# Altium footprint library Soardra.PcbLib: 139 footprints (part 8 of 9)
Each footprint in its own frame and in the unit in brackets; x right, y up, seen from the top. Pads: shape width x height; smd on the part's side, far side on the other; paste and mask are expansions set on the pad; w line width, h text height; cw(c..) or ccw(c..) is an arc to the next point about the centre after c.
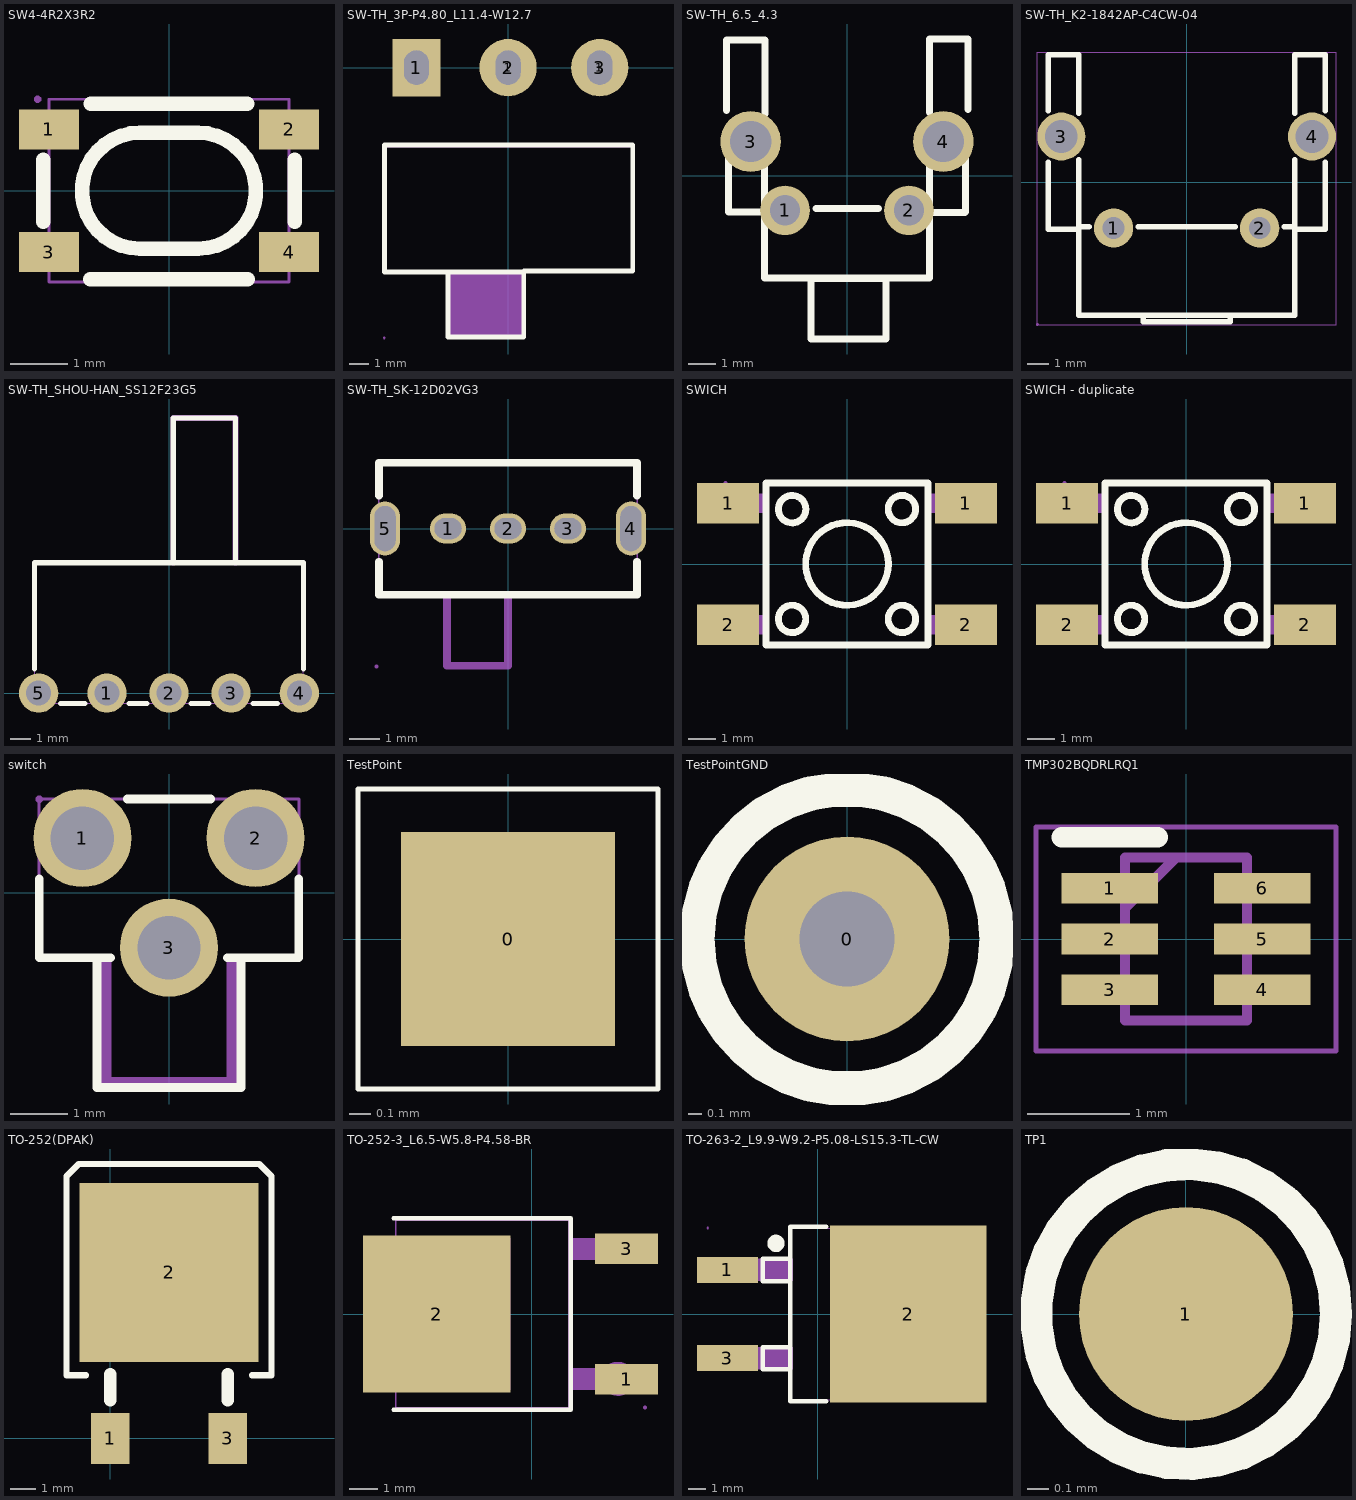
[diagram p7: the footprints below, top view; thin cyan lines are the x and y axes]

## SW4-4R2X3R2 [mm]
pads (4):
  rect 1.05x0.7 smd paste+0 mask+0.051: 1(-2.1,1.075) 2(2.1,1.075) 3(-2.1,-1.075) 4(2.1,-1.075)
Top Overlay:
  lines w0.254: -2.2,-0.544 -2.2,0.544 ; -1.381,-1.55 1.381,-1.55 ; -1.366,1.524 1.366,1.524 ; 2.2,-0.544 2.2,0.544 ; -0.508,-1.016 cw(c-0.508,0) -0.508,1.016 0.508,1.016 cw(c0.508,0) 0.508,-1.016 -0.508,-1.016
Mechanical 15:
  region: -2.35,1.35 -1.65,1.35 -1.65,0.8 -2.35,0.8
  region: 1.651,1.35 2.351,1.35 2.351,0.8 1.651,0.8
  region: -2.35,-0.8 -1.65,-0.8 -1.65,-1.35 -2.35,-1.35
  region: 1.651,-0.8 2.351,-0.8 2.351,-1.35 1.651,-1.35
  region: -2.24,1.6 -2.24,1.625 -2.275,1.66 -2.325,1.66 -2.36,1.625 -2.36,1.6 -2.36,1.575 -2.325,1.54 -2.275,1.54 -2.24,1.575 -2.24,1.6
  lines w0.051: -2.1,-1.6 -2.1,1.6 2.1,1.6 2.1,-1.6 -2.1,-1.6

## SW-TH_3P-P4.80_L11.4-W12.7 [mm]
pads (5):
  rect 2.5x3 hole 1.8 slot 1.3 at 0 deg paste+0 mask+0.051: 1(-4.8,0)
  rect 0.8x1.3 on Top Overlay: 1(0,0) 1(4.8,0)
  round 3 hole 1.8 slot 1.3 at 0 deg paste+0 mask+0.051: 2(0,0) 3(4.8,0)
Top Overlay:
  lines w0.254: -6.48,-4.12 -6.48,-10.7 -3.15,-10.7 ; -6.48,-4.05 5.67,-4.05 6.53,-4.05 6.53,-10.65 0.82,-10.65 0.82,-14.1 -3.15,-14.1 -3.15,-10.7 ; 0.82,-10.7 -3.15,-10.7
Mechanical 6:
  region: 0.78,-10.72 0.78,-14.06 0.82,-14.1 -3.15,-14.1 -3.15,-10.7
Mechanical 15:
  region: -6.42,-14.15 -6.42,-14.125 -6.455,-14.09 -6.505,-14.09 -6.54,-14.125 -6.54,-14.15 -6.54,-14.175 -6.505,-14.21 -6.455,-14.21 -6.42,-14.175 -6.42,-14.15
  lines w0.051: -6.48,-10.64 -6.48,-4.15 6.48,-4.15 6.48,-10.65 0.77,-10.65 0.77,-14.15 -3.06,-14.15 -3.06,-10.65 -6.47,-10.65 -6.48,-10.64

## SW-TH_6.5_4.3 [mm]
pads (4):
  round 1.8 hole 1.1: 1(-2.25,-1.25) 2(2.25,-1.25)
  round 2.2 hole 1.5: 3(-3.5,1.25) 4(3.5,1.25)
Top Overlay:
  lines w0.254: -4.38,2.378 -4.38,4.932 -2.983,4.932 -2.983,2.256 ; -4.3,1.762 -4.3,-1.309 -2.99,-1.309 ; -3,-1.309 -3,-3.71 3,-3.71 3,-1.309 ; -3,-1.182 -3,1.884 ; -1.121,-1.182 1.14,-1.182 ; 2.89,-1.32 4.287,-1.32 ; 2.993,2.296 2.993,4.972 4.39,4.972 4.39,2.418 ; 3,-1.182 3,1.884 ; 4.3,-1.309 4.3,1.762 ; -1.3,-5.92 1.41,-5.92 1.41,-3.72 -1.3,-3.72 -1.3,-5.92
Mechanical 15:
  region: -1.85,-1.25 -1.85,-1.17 -1.911,-1.023 -2.024,-0.911 -2.171,-0.85 -2.33,-0.85 -2.477,-0.911 -2.589,-1.023 -2.65,-1.17 -2.65,-1.25 -2.65,-1.33 -2.589,-1.477 -2.477,-1.589 -2.33,-1.65 -2.171,-1.65 -2.024,-1.589 -1.911,-1.477 -1.85,-1.33 -1.85,-1.25

## SW-TH_K2-1842AP-C4CW-04 [mm]
pads (4):
  round 1.8 hole 1: 1(-3.35,-2.1) 2(3.35,-2.1)
  round 2.2 hole 1.5: 3(-5.75,2.1) 4(5.75,2.1)
Top Overlay:
  lines w0.254: -6.35,0.912 -6.35,-2.159 -4.953,-2.159 -4.953,-6.096 4.953,-6.096 4.953,-2.159 6.35,-2.159 6.35,0.912 ; -6.35,3.288 -6.35,5.842 -4.953,5.842 -4.953,3.166 ; -4.953,1.035 -4.953,-2.032 -4.479,-2.032 ; -2.221,-2.032 2.221,-2.032 ; 4.479,-2.032 4.953,-2.032 4.953,1.035 ; 4.953,3.166 4.953,5.842 6.35,5.842 6.35,3.288 ; -2,-6.396 2,-6.396 2,-6.096 -2,-6.096 -2,-6.396
Mechanical 15:
  region: -6.79,-6.523 -6.79,-6.498 -6.825,-6.463 -6.875,-6.463 -6.91,-6.498 -6.91,-6.523 -6.91,-6.548 -6.875,-6.583 -6.825,-6.583 -6.79,-6.548 -6.79,-6.523
  region: 6.4,2.1 6.4,2.186 6.356,2.351 6.27,2.499 6.149,2.62 6.001,2.706 5.836,2.75 5.664,2.75 5.499,2.706 5.351,2.62 5.23,2.499 5.144,2.351 5.1,2.186 5.1,2.1 5.1,2.014 5.144,1.849 5.23,1.701 5.351,1.58 5.499,1.494 5.664,1.45 5.836,1.45 6.001,1.494 6.149,1.58 6.27,1.701 6.356,1.849 6.4,2.014 6.4,2.1
  region: -5.1,2.1 -5.1,2.186 -5.144,2.351 -5.23,2.499 -5.351,2.62 -5.499,2.706 -5.664,2.75 -5.836,2.75 -6.001,2.706 -6.149,2.62 -6.27,2.499 -6.356,2.351 -6.4,2.186 -6.4,2.1 -6.4,2.014 -6.356,1.849 -6.27,1.701 -6.149,1.58 -6.001,1.494 -5.836,1.45 -5.664,1.45 -5.499,1.494 -5.351,1.58 -5.23,1.701 -5.144,1.849 -5.1,2.014 -5.1,2.1
  region: 3.75,-2.1 3.75,-2.02 3.689,-1.873 3.577,-1.761 3.43,-1.7 3.271,-1.7 3.124,-1.761 3.011,-1.873 2.95,-2.02 2.95,-2.1 2.95,-2.179 3.011,-2.326 3.124,-2.439 3.271,-2.5 3.43,-2.5 3.577,-2.439 3.689,-2.326 3.75,-2.179 3.75,-2.1
  region: -2.95,-2.1 -2.95,-2.02 -3.011,-1.873 -3.123,-1.761 -3.27,-1.7 -3.429,-1.7 -3.576,-1.761 -3.689,-1.873 -3.75,-2.02 -3.75,-2.1 -3.75,-2.179 -3.689,-2.326 -3.576,-2.439 -3.429,-2.5 -3.27,-2.5 -3.123,-2.439 -3.011,-2.326 -2.95,-2.179 -2.95,-2.1
  lines w0.051: -6.85,-6.523 6.85,-6.523 6.85,5.969 -6.85,5.969 -6.85,-6.523

## SW-TH_SHOU-HAN_SS12F23G5 [mm]
pads (5):
  round 1.9 hole 1.2 mask+0.05: 1(-3,0) 2(0,0) 3(3,0) 4(6.3,0) 5(-6.3,0)
Top Overlay:
  lines w0.254: -6.5,1.164 -6.5,6.3 6.5,6.3 6.5,1.164 ; -5.23,-0.5 -4.07,-0.5 ; -1.93,-0.5 -1.07,-0.5 ; 0.21,6.3 0.21,13.3 3.21,13.3 3.21,6.3 ; 1.07,-0.5 1.93,-0.5 ; 4.07,-0.5 5.23,-0.5
Mechanical 6:
  region: 3.083,6.3 3.083,13.3 3.083,13.353 3.157,13.427 3.263,13.427 3.337,13.353 3.337,13.3 3.337,6.3 3.337,6.247 3.263,6.173 3.157,6.173 3.083,6.247 3.083,6.3
  region: 3.21,13.173 0.337,13.173 0.337,6.3 0.337,6.247 0.263,6.173 0.157,6.173 0.083,6.247 0.083,6.3 0.083,13.3 0.083,13.325 0.102,13.372 0.138,13.408 0.185,13.427 0.21,13.427 3.21,13.427 3.263,13.427 3.337,13.353 3.337,13.247 3.263,13.173 3.21,13.173
Mechanical 15:
  region: -6.44,-0.5 -6.44,-0.475 -6.475,-0.44 -6.525,-0.44 -6.56,-0.475 -6.56,-0.5 -6.56,-0.525 -6.525,-0.56 -6.475,-0.56 -6.44,-0.525 -6.44,-0.5
  region: 2.6,0.15 3.4,0.15 3.4,-0.15 2.6,-0.15
  region: -0.4,0.15 0.4,0.15 0.4,-0.15 -0.4,-0.15
  region: -3.4,0.15 -2.6,0.15 -2.6,-0.15 -3.4,-0.15
  region: 6.1,0.5 6.5,0.5 6.5,-0.5 6.1,-0.5
  region: -6.5,0.5 -6.1,0.5 -6.1,-0.5 -6.5,-0.5
  lines w0.051: -6.5,-0.492 -6.5,6.308 0.2,6.31 0.2,13.3 3.2,13.31 3.2,6.31 6.5,6.308 6.5,-0.492 -6.5,-0.492

## SW-TH_SK-12D02VG3 [mm]
pads (5):
  oval 1.2x1 hole 0.7 slot 0.9 at 0 deg mask+0.051: 1(-1.999,0) 2(0,0) 3(1.999,0)
  oval 1x1.8 hole 0.7 slot 1.5 at 90 deg mask+0.051: 4(4.099,0) 5(-4.099,0)
Top Overlay:
  lines w0.254: -4.3,-1.103 -4.3,-2.2 4.3,-2.2 4.3,-1.103 ; -4.3,1.103 -4.3,2.2 4.3,2.2 4.3,1.103
Mechanical 6:
  lines w0.254: -2.032,-2.286 -2.032,-4.572 0,-4.572 0,-2.286
Mechanical 15:
  region: -4.38,-0.4 -4.38,0.4 -3.82,0.4 -3.82,-0.4
  region: 3.82,-0.4 3.82,0.4 4.38,0.4 4.38,-0.4
  region: 2.1,-0.28 1.9,-0.28 1.9,0.28 2.1,0.28
  region: 0.1,-0.28 -0.1,-0.28 -0.1,0.28 0.1,0.28
  region: -1.9,-0.28 -2.1,-0.28 -2.1,0.28 -1.9,0.28
  region: -4.32,-4.6 -4.32,-4.575 -4.355,-4.54 -4.405,-4.54 -4.44,-4.575 -4.44,-4.6 -4.44,-4.625 -4.405,-4.66 -4.355,-4.66 -4.32,-4.625 -4.32,-4.6
  lines w0.051: -4.3,-2.2 -4.3,2.3 4.3,2.3 4.3,-2.2 0,-2.22 0,-4.6 -2,-4.6 -2,-2.2 -4.3,-2.2

## SWICH [mm] "SMD 6*6*5"
height 15
pads (4):
  rect 2.3x1.5 smd mask+0.051: 1(-4.4,2.25) 1(4.4,2.25) 2(-4.4,-2.25) 2(4.4,-2.25)
Top Overlay:
  circle w0.254: c-2.03,2.03 r0.508
  circle w0.254: c2.032,2.032 r0.508
  circle w0.254: c-2.032,-2.032 r0.508
  circle w0.254: c2.032,-2.032 r0.508
  circle w0.254: c0,0 r1.529
  lines w0.254: -3,-3 -3,3 3,3 3,-3 -3,-3
Mechanical 15:
  region: 3.5,1.9 3.5,2.6 4.5,2.6 4.5,1.9
  region: 2.99,1.9 2.99,2.6 3.51,2.6 3.51,1.9
  region: 3.5,-2.6 3.5,-1.9 4.5,-1.9 4.5,-2.6
  region: 2.99,-2.6 2.99,-1.9 3.51,-1.9 3.51,-2.6
  region: -4.5,-2.6 -4.5,-1.9 -3.5,-1.9 -3.5,-2.6
  region: -3.51,-2.6 -3.51,-1.9 -2.99,-1.9 -2.99,-2.6
  region: -4.5,1.9 -4.5,2.6 -3.5,2.6 -3.5,1.9
  region: -3.51,1.9 -3.51,2.6 -2.99,2.6 -2.99,1.9
  region: -4.44,3 -4.44,3.025 -4.475,3.06 -4.525,3.06 -4.56,3.025 -4.56,3 -4.56,2.975 -4.525,2.94 -4.475,2.94 -4.44,2.975 -4.44,3
  lines w0.051: -3,-3 -3,3 3,3 3,-3 -3,-3

## SWICH - duplicate [mm] "SMD 6*6*5"
height 0.5
pads (4):
  rect 2.3x1.5 smd mask+0.051: 1(-4.4,2.25) 1(4.4,2.25) 2(-4.4,-2.25) 2(4.4,-2.25)
Top Overlay:
  circle w0.254: c-2.03,2.03 r0.508
  circle w0.254: c2.032,2.032 r0.508
  circle w0.254: c-2.032,-2.032 r0.508
  circle w0.254: c2.032,-2.032 r0.508
  circle w0.254: c0,0 r1.529
  lines w0.254: -3,-3 -3,3 3,3 3,-3 -3,-3
Mechanical 15:
  region: 3.5,1.9 3.5,2.6 4.5,2.6 4.5,1.9
  region: 2.99,1.9 2.99,2.6 3.51,2.6 3.51,1.9
  region: 3.5,-2.6 3.5,-1.9 4.5,-1.9 4.5,-2.6
  region: 2.99,-2.6 2.99,-1.9 3.51,-1.9 3.51,-2.6
  region: -4.5,-2.6 -4.5,-1.9 -3.5,-1.9 -3.5,-2.6
  region: -3.51,-2.6 -3.51,-1.9 -2.99,-1.9 -2.99,-2.6
  region: -4.5,1.9 -4.5,2.6 -3.5,2.6 -3.5,1.9
  region: -3.51,1.9 -3.51,2.6 -2.99,2.6 -2.99,1.9
  region: -4.44,3 -4.44,3.025 -4.475,3.06 -4.525,3.06 -4.56,3.025 -4.56,3 -4.56,2.975 -4.525,2.94 -4.475,2.94 -4.44,2.975 -4.44,3
  lines w0.051: -3,-3 -3,3 3,3 3,-3 -3,-3

## switch [mm]
height 0.5
pads (3):
  round 1.7 hole 1.1: 1(-1.5,0.95) 2(1.5,0.95) 3(0,-0.95)
Top Overlay:
  lines w0.152: -2.25,0.245 -2.25,-1.125 -1.25,-1.125 ; -1.015,-1.125 -1.25,-1.125 ; -0.723,1.625 0.722,1.625 ; 1.015,-1.125 1.25,-1.125 ; 2.25,0.245 2.25,-1.125 1.25,-1.125 ; -1.25,-1.125 -1.25,-3.376 1.25,-3.376 1.25,-1.125
Mechanical 6:
  region: -1.2,-1.1 -1.2,-3.4 1.2,-3.4 1.2,-1.1 1,-1.1 1,-3.2 -1,-3.2 -1,-1.1
Mechanical 15:
  region: -2.19,1.625 -2.19,1.65 -2.225,1.685 -2.275,1.685 -2.31,1.65 -2.31,1.625 -2.31,1.6 -2.275,1.565 -2.225,1.565 -2.19,1.6 -2.19,1.625
  region: 0.35,-1.125 -0.35,-1.125 -0.35,-0.775 0.35,-0.775
  region: -1.15,0.79 -1.85,0.79 -1.85,1.11 -1.15,1.11
  region: 1.85,0.79 1.15,0.79 1.15,1.11 1.85,1.11
  lines w0.051: -2.25,-1.125 -2.25,1.625 2.25,1.625 2.25,-1.125 1.25,-1.125 1.25,-3.376 -1.25,-3.376 -1.25,-1.125 -2.25,-1.125

## TestPoint [mm]
pads (1):
  rect 1x1 smd: 0(0,0)
Top Overlay:
  lines w0.025: -0.7,-0.7 0.7,-0.7 0.7,0.7 -0.7,0.7 -0.7,-0.7

## TestPointGND [mm]
pads (1):
  round 1.5 hole 0.7: 0(0,0)
Top Overlay:
  circle w0.254: c0,0 r1.1

## TMP302BQDRLRQ1 [mm]
pads (6):
  rect 0.95x0.3 smd: 1(-0.75,0.5) 2(-0.75,0) 3(-0.75,-0.5) 4(0.75,-0.5) 5(0.75,0) 6(0.75,0.5)
Top Overlay:
  lines w0.2: -1.225,1 -0.275,1
Mechanical 15:
  lines w0.1: -0.6,0.3 -0.1,0.8 ; -0.6,-0.8 -0.6,0.8 0.6,0.8 0.6,-0.8 -0.6,-0.8
Mechanical 20:
  lines w0.05: -1.475,-1.1 -1.475,1.1 1.475,1.1 1.475,-1.1 -1.475,-1.1

## TO-252(DPAK) [mm]
height 0.5
pads (3):
  rect 1.5x2 smd: 1(0,0) 3(4.6,0)
  rect 7x7 smd: 2(2.3,6.5)
Top Overlay:
  lines w0.25: -0.953,2.474 -1.714,2.474 -1.714,9.426 -1.714,10.268 -1.233,10.749 5.833,10.749 6.314,10.268 6.314,9.426 6.314,2.474 5.553,2.474
  lines w0.5: 0,1.5 0,2.514 ; 4.6,1.5 4.6,2.514
3D body: height 2.8, standoff 0, extent -1.181,3.023 5.838,9.989
3D body: height 1, standoff 0, extent -0.5,-0.5 0.5,0.5
3D body: height 1.5, standoff 1, extent -0.5,0 0.5,3
3D body: height 1.5, standoff 1, extent 4,0 5,3
3D body: height 1, standoff 0, extent 4,-0.5 5,0.5

## TO-252-3_L6.5-W5.8-P4.58-BR [mm]
pads (3):
  rect 2.218x1.064 smd mask+0.051: 1(3.349,-2.3) 3(3.349,2.3)
  rect 5.204x5.554 smd mask+0.051: 2(-3.349,0)
Top Overlay:
  lines w0.152: -4.873,-3.376 1.38,-3.376 1.38,3.376 -4.873,3.376
Mechanical 6:
  circle w0.6: c3.048,-2.286 r0.3
Mechanical 15:
  region: -0.747,2.67 -0.747,-2.67 -4.962,-2.67 -5.497,-2.136 -5.497,2.136 -4.962,2.67
  region: 2.544,2.68 2.544,1.92 1.293,1.92 1.293,2.68
  region: 4.003,2.68 4.003,1.92 2.533,1.92 2.533,2.68
  region: 2.544,-1.92 2.544,-2.68 1.293,-2.68 1.293,-1.92
  region: 4.003,-1.92 4.003,-2.68 2.533,-2.68 2.533,-1.92
  region: 4.064,-3.3 4.064,-3.275 4.028,-3.24 3.979,-3.24 3.944,-3.275 3.944,-3.3 3.944,-3.325 3.979,-3.36 4.028,-3.36 4.064,-3.325 4.064,-3.3
  lines w0.051: -4.797,-3.3 -4.797,3.3 1.304,3.3 1.304,-3.3 -4.797,-3.3

## TO-263-2_L9.9-W9.2-P5.08-LS15.3-TL-CW [mm]
pads (3):
  rect 3.5x1.5 smd: 1(-5.209,2.54) 3(-5.209,-2.54)
  rect 9x10.2 smd: 2(5.209,0)
Top Overlay:
  circle w0.5: c-2.415,4.064 r0.25
  lines w0.254: -1.584,-3.185 -3.178,-3.185 -3.178,-1.905 -1.584,-1.905 ; -1.584,1.895 -3.178,1.895 -3.178,3.175 -1.584,3.175 ; 0.472,-5.026 -1.584,-5.026 -1.584,5.026 0.472,5.026
Mechanical 6:
  circle w0.5: c-6.225,2.54 r0.25
Mechanical 15:
  region: -1.438,-1.905 -1.438,-3.175 -4.049,-3.175 -4.049,-1.905
  region: 0.962,4.95 8.162,4.95 8.962,4.15 8.962,-4.15 8.162,-4.95 0.962,-4.95
  region: -6.339,-2.94 -4.039,-2.94 -4.039,-2.14 -6.339,-2.14
  region: -1.438,3.175 -1.438,1.905 -4.049,1.905 -4.049,3.175
  region: -6.339,2.14 -4.039,2.14 -4.039,2.94 -6.339,2.94
  region: -6.278,4.95 -6.278,4.975 -6.314,5.01 -6.363,5.01 -6.398,4.975 -6.398,4.95 -6.398,4.925 -6.363,4.89 -6.314,4.89 -6.278,4.925 -6.278,4.95
  lines w0.051: -1.508,-4.95 -1.508,4.95 7.692,4.95 7.692,-4.95 -1.508,-4.95

## TP1 [mm]
pads (1):
  round 1 smd: 1(0,0)
Top Overlay:
  circle w0.15: c0,0 r0.7